# Altium footprint library microchip.PcbLib: 1 footprints
Each footprint in its own frame and in the unit in brackets; x right, y up, seen from the top. Pads: shape width x height; smd on the part's side, far side on the other; paste and mask are expansions set on the pad; w line width, h text height; cw(c..) or ccw(c..) is an arc to the next point about the centre after c.
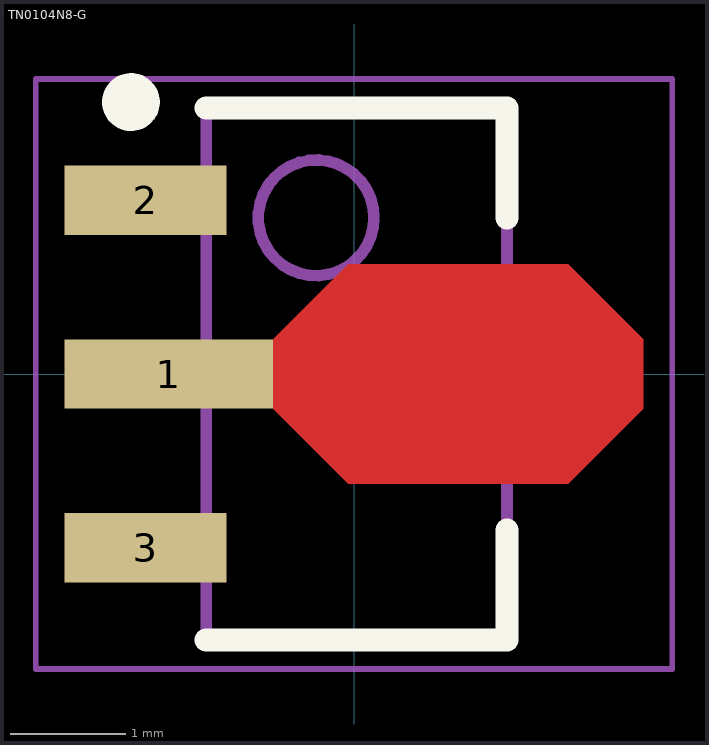
[diagram p0: the footprint, top view; thin cyan lines are the x and y axes]

## TN0104N8-G [mm] "N-Channel Enhancement-Mode  Vertical DMOS FET, SOT89"
height 1.6
pads (3):
  rect 1.8x0.6 smd: 1(-1.6,0)
  rect 1.4x0.6 smd: 2(-1.8,1.5) 3(-1.8,-1.5)
Top Layer:
  region: -0.7,0.3 -0.05,0.95 1.85,0.95 2.5,0.3 2.5,-0.3 1.85,-0.95 -0.05,-0.95 -0.7,-0.3
Top Overlay:
  circle w0.25: c-1.927,2.35 r0.125
  lines w0.2: -1.278,-2.3 1.322,-2.3 1.322,-1.35 ; -1.278,2.3 1.322,2.3 1.322,1.35
Mechanical 13:
  circle w0.1: c-0.327,1.35 r0.5
  lines w0.1: -1.278,-2.3 -1.278,2.3 1.322,2.3 1.322,-2.3 -1.278,-2.3
Mechanical 15:
  lines w0.05: -2.75,-2.55 -2.75,2.55 2.75,2.55 2.75,-2.55 -2.75,-2.55
  lines w0.1: -0.477,0 0.523,0 ; 0.022,-0.5 0.022,0.5
3D body: height 1.6, standoff 0, extent -1.278,-2.3 1.322,2.3